# EAGLE library part XA12 (library connectors)
Connector 12 pins, alternating
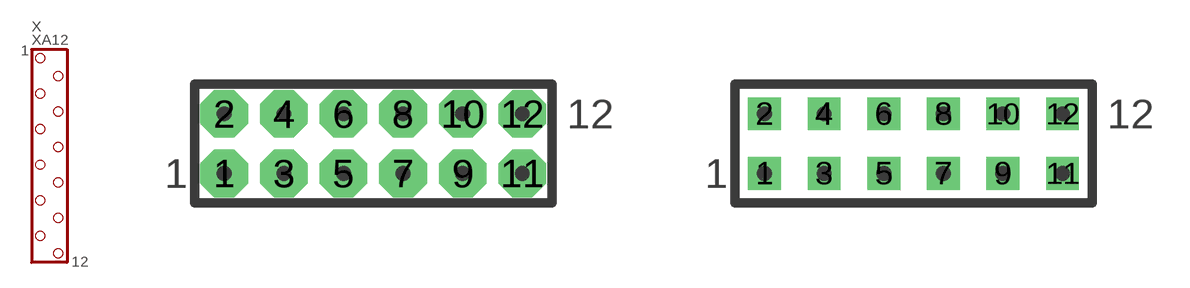
[diagram p33: symbol with the pads of X12N-DIL; footprints X12N-DIL, X12R-DIL]

Designator prefix X

## XA12D  [X12N-DIL]
1  1
2  2
3  3
4  4
5  5
6  6
7  7
8  8
9  9
10  10
11  11
12  12

## XA12DR  [X12R-DIL]
Pads as for X12N-DIL

## XA12I  [X12N-IDC]
Pads as for X12N-DIL

## XA12  [X12N-IDC]
Pads as for X12N-DIL

## XA12IR  [X12R-IDC]
Pads as for X12N-DIL

## XA12L  [X12L-SIL]
Pads as for X12N-DIL

## XA12N  [X12N-SIL]
Pads as for X12N-DIL

## XA12R  [X12R-SIL]
Pads as for X12N-DIL

## Footprint X12N-DIL (pad centres in mm)
Connector 12 pins, DIL
drill 0.889 pad 2.032 octagon: 1 -6.35,-1.27; 2 -6.35,1.27; 3 -3.81,-1.27; 4 -3.81,1.27; 5 -1.27,-1.27; 6 -1.27,1.27; 7 1.27,-1.27; 8 1.27,1.27; 9 3.81,-1.27; 10 3.81,1.27; 11 6.35,-1.27; 12 6.35,1.27

## Footprint X12R-DIL (pad centres in mm)
Connector 12 pins, DIL, reduced pads
drill 0.889 pad 1.397 square: 1 -6.35,-1.27; 2 -6.35,1.27; 3 -3.81,-1.27; 4 -3.81,1.27; 5 -1.27,-1.27; 6 -1.27,1.27; 7 1.27,-1.27; 8 1.27,1.27; 9 3.81,-1.27; 10 3.81,1.27; 11 6.35,-1.27; 12 6.35,1.27

## Footprint X12N-IDC (pad centres in mm)
Connector 12 pins, IDC
drill 0.889 pad 2.032 octagon: 1 -6.35,-1.27; 2 -6.35,1.27; 3 -3.81,-1.27; 4 -3.81,1.27; 5 -1.27,-1.27; 6 -1.27,1.27; 7 1.27,-1.27; 8 1.27,1.27; 9 3.81,-1.27; 10 3.81,1.27; 11 6.35,-1.27; 12 6.35,1.27

## Footprint X12R-IDC (pad centres in mm)
Connector 12 pins, IDC, reduced pads
drill 0.889 pad 1.397 square: 1 -6.35,-1.27; 2 -6.35,1.27; 3 -3.81,-1.27; 4 -3.81,1.27; 5 -1.27,-1.27; 6 -1.27,1.27; 7 1.27,-1.27; 8 1.27,1.27; 9 3.81,-1.27; 10 3.81,1.27; 11 6.35,-1.27; 12 6.35,1.27

## Footprint X12L-SIL (pad centres in mm)
Connector 12 pins, SIL, long pads
drill 0.889 pad 1.397 long: 1 -13.97,0; 2 -11.43,0; 3 -8.89,0; 4 -6.35,0; 5 -3.81,0; 6 -1.27,0; 7 1.27,0; 8 3.81,0; 9 6.35,0; 10 8.89,0; 11 11.43,0; 12 13.97,0

## Footprint X12N-SIL (pad centres in mm)
Connector 12 pins, SIL
drill 0.889 pad 2.032 octagon: 1 -13.97,0; 2 -11.43,0; 3 -8.89,0; 4 -6.35,0; 5 -3.81,0; 6 -1.27,0; 7 1.27,0; 8 3.81,0; 9 6.35,0; 10 8.89,0; 11 11.43,0; 12 13.97,0

## Footprint X12R-SIL (pad centres in mm)
Connector 12 pins, SIL, reduced pads
drill 0.889 pad 1.397 square: 1 -13.97,0; 2 -11.43,0; 3 -8.89,0; 4 -6.35,0; 5 -3.81,0; 6 -1.27,0; 7 1.27,0; 8 3.81,0; 9 6.35,0; 10 8.89,0; 11 11.43,0; 12 13.97,0